# Altium schematic symbol library CAP,Omit,0805.Schlib: 1 symbol
Pins are listed as number, name and electrical type; pins without a type are passive.

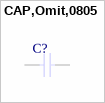
[diagram p0: symbol CAP,Omit,0805]

## CAP,Omit,0805
designator C?  (no BOM)
pins: 1, 2